# EAGLE library part VCXO_SMD (library NewSDR)
VCXO
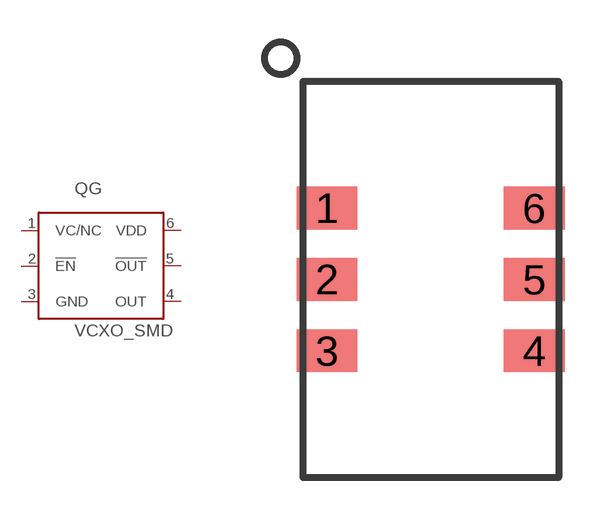
[diagram p212: symbol with the pads of OCXO_SMD; footprint OCXO_SMD]

Designator prefix QG

## VCXO_SMD  [OCXO_SMD]
1  VC/NC  nc
2  !EN  in
3  GND  pwr
4  OUT  out
5  !OUT  nc
6  VDD  pwr

## Footprint OCXO_SMD (pad centres in mm)
Connor Winfield OCXO SMD Package
smd 2.159 x 1.524: 1 -3.683,2.54; 2 -3.683,0; 3 -3.683,-2.54; 4 3.683,-2.54; 5 3.683,0; 6 3.683,2.54